# Altium schematic symbol library kmilo17pet-TI_MSP430.SchLib: 1463 symbols (part 27 of 130)
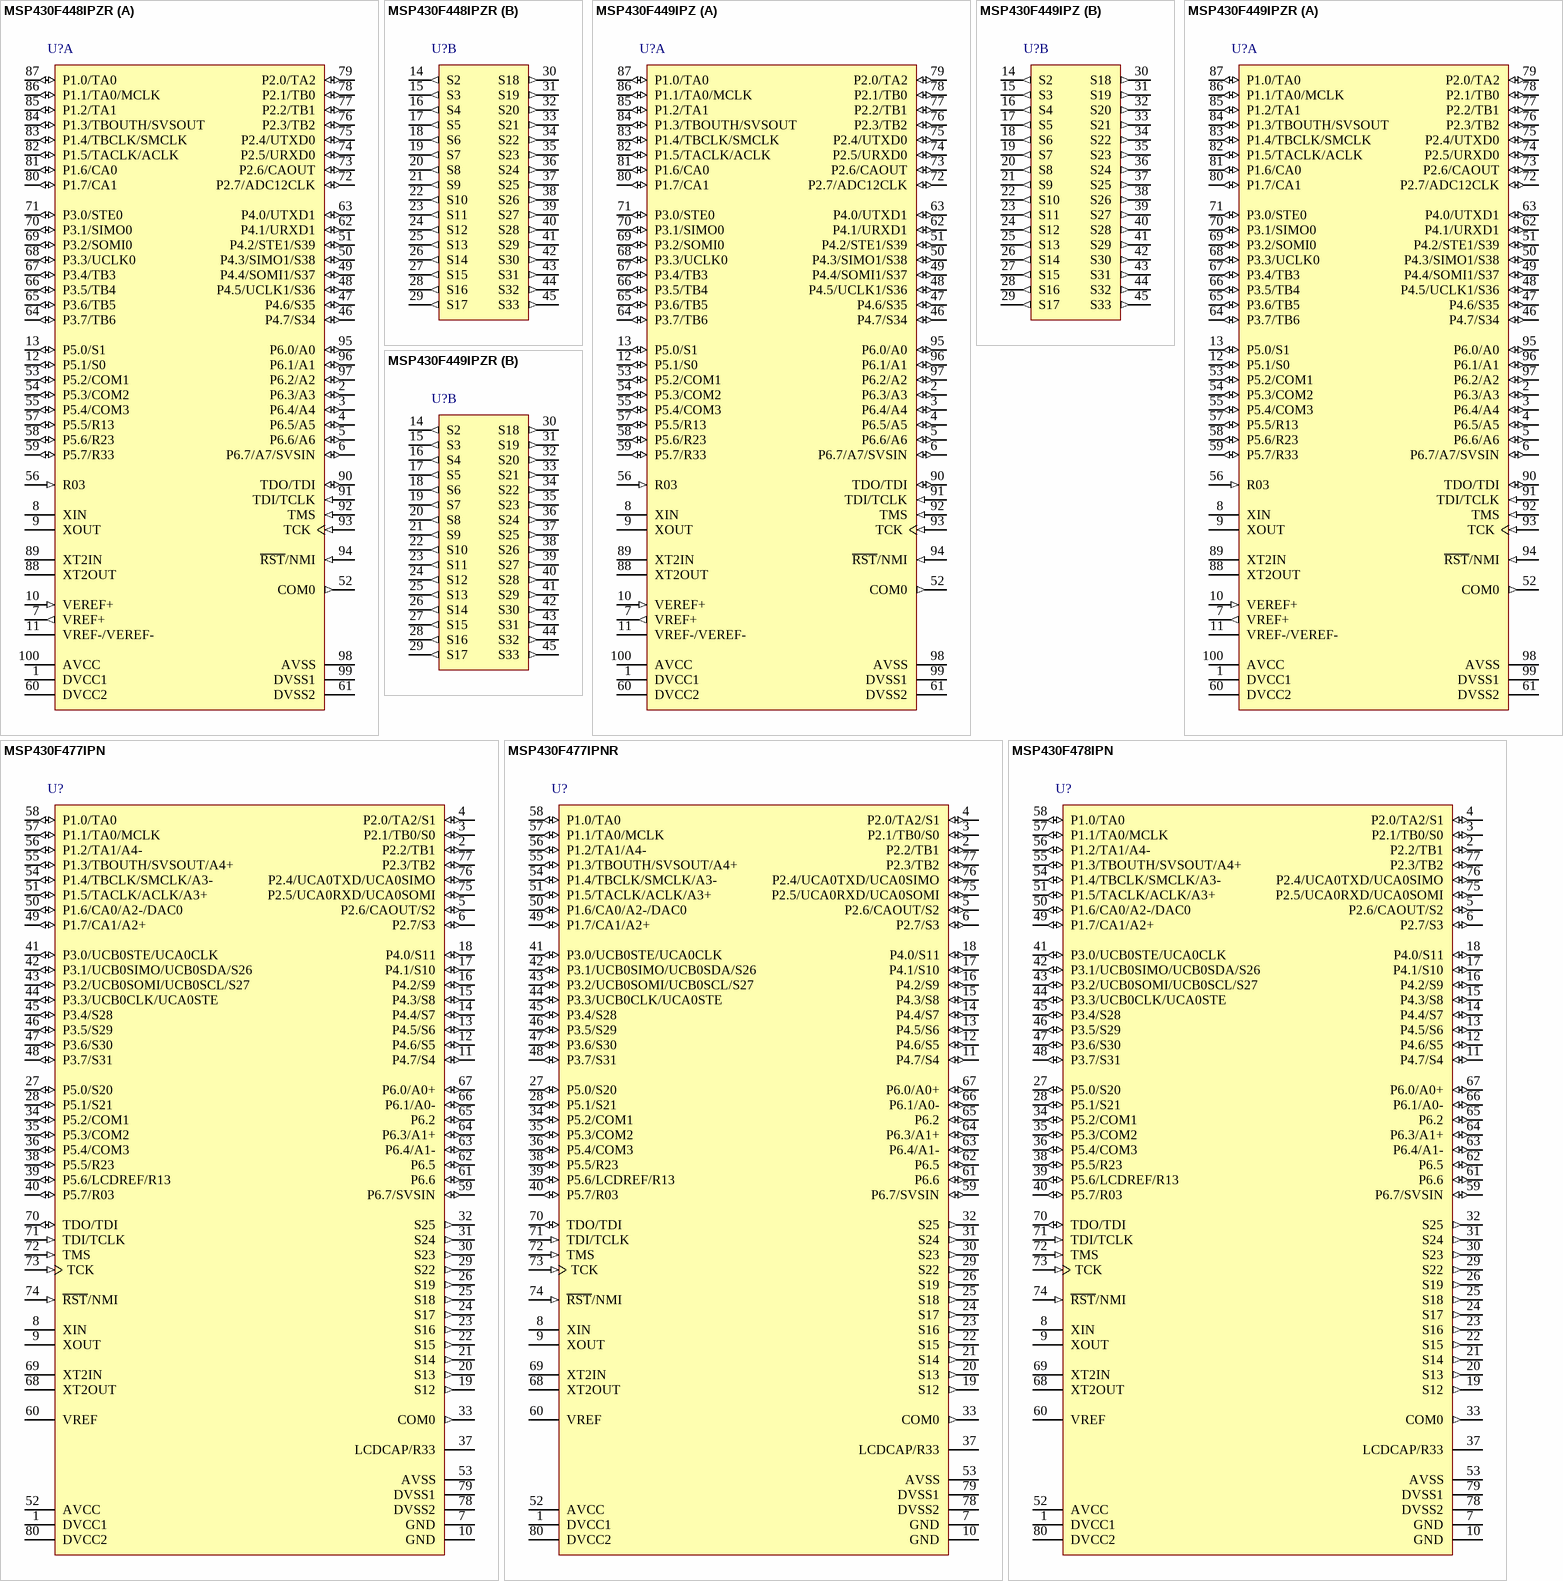
[diagram p250: symbols MSP430F448IPZR to MSP430F478IPN]

## MSP430F449IPZR
designator U?
8 MHz Mixed Signal Microcontroller with 60 KB Flash, 2048 B SRAM and 48 GPIOs, -40 to 85 degC, 100-pin QFP (PZ), Green (RoHS & no Sb/Br); Manufacturer: Texas Instruments; PartNumber: MSP430F449IPZR; ADC: 12-bit SAR; Brown Out Reset: Yes; Flash(KB): 60; Frequency(MHz): 8; GPIO: 48; LCD Segments: 160; Multiplier: 16x16; SRAM(B): 2048; SubFamily: 4 Series with LCD; USART: 2; DatasheetVersion: SLAS344G; PackageVersion: 4040149/B; PackageReference: PZ100; PackageDescription: 100-Pin Plastic Flat Pack, Body 14 x 14 mm, Pitch 0.5 mm; Supplier 1: Digi-Key; Supplier Part Number 1: 296-12640-ND; Supplier 2: Farnell; Supplier Part Number 2: 1103049; Supplier 3: Newark; Supplier Part Number 3: 34K8192; Supplier 4: Mouser; Supplier Part Number 4: 595-430F449IPZ; Comparators: Yes; Eco-Plan: Green (RoHS & no Sb/Br); SVS: Yes; Temp Sensor: Yes; Watchdog: Yes; Mounting Technology: Surface Mount; Code_JEDEC: MS-026; ComponentLink1Description: Manufacturer URL; ComponentLink1URL: http://www.ti.com/; ComponentLink2Description: Datasheet; ComponentLink2URL: http://www.ti.com/general/docs/lit/getliterature.tsp?genericPartNumber=MSP430F449&fileType=pdf; ComponentLink3Description: Package Specification; ComponentLink3URL: http://www.ti.com/lit/ml/mtqf013a/mtqf013a.pdf
footprint TI-PZ100_N (QFP, 100-Leads, Body 14x14mm, Pitch 0.5mm, IPC Medium Density)
part A pins: 1 DVCC1 (power) "Digital supply voltage, positive terminal.", 2 P6.3/A3 (io), 3 P6.4/A4 (io), 4 P6.5/A5 (io), 5 P6.6/A6 (io), 6 P6.7/A7/SVSIN (io), 7 VREF+ (out) "Output of positive terminal of the reference voltage in the ADC", 8 XIN "Input port for crystal oscillator XT1. Standard or watch crystals can be connected.", 9 XOUT "Output terminal of crystal oscillator XT1", 10 VEREF+ (in) "Input for an external reference voltage to the ADC", 11 VREF-/VEREF-, 12 P5.1/S0 (io), 13 P5.0/S1 (io), 46 P4.7/S34 (io), 47 P4.6/S35 (io), 48 P4.5/UCLK1/S36 (io), 49 P4.4/SOMI1/S37 (io), 50 P4.3/SIMO1/S38 (io), 51 P4.2/STE1/S39 (io), 52 COM0 (out) "COM0-3 are used for LCD backplanes.", 53 P5.2/COM1 (io), 54 P5.3/COM2 (io), 55 P5.4/COM3 (io), 56 R03 (in) "Input port of fourth positive (lowest) analog LCD level (V5)", 57 P5.5/R13 (io), 58 P5.6/R23 (io), 59 P5.7/R33 (io), 60 DVCC2 (power) "Digital supply voltage, positive terminal.", 61 DVSS2 (power) "Digital supply voltage, negative terminal.", 62 P4.1/URXD1 (io), 63 P4.0/UTXD1 (io), 64 P3.7/TB6 (io), 65 P3.6/TB5 (io), 66 P3.5/TB4 (io), 67 P3.4/TB3 (io), 68 P3.3/UCLK0 (io), 69 P3.2/SOMI0 (io), 70 P3.1/SIMO0 (io), 71 P3.0/STE0 (io), 72 P2.7/ADC12CLK (io), 73 P2.6/CAOUT (io), 74 P2.5/URXD0 (io), 75 P2.4/UTXD0 (io), 76 P2.3/TB2 (io), 77 P2.2/TB1 (io), 78 P2.1/TB0 (io), 79 P2.0/TA2 (io), 80 P1.7/CA1 (io), 81 P1.6/CA0 (io), 82 P1.5/TACLK/ACLK (io), 83 P1.4/TBCLK/SMCLK (io), 84 P1.3/TBOUTH/SVSOUT (io), 85 P1.2/TA1 (io), 86 P1.1/TA0/MCLK (io), 87 P1.0/TA0 (io), 88 XT2OUT "Output terminal of crystal oscillator XT2", 89 XT2IN "Input port for crystal oscillator XT2. Only standard crystals can be connected.", 90 TDO/TDI (io), 91 TDI/TCLK (in), 92 TMS (in) "Test mode select. TMS is used as an input port for device programming and test.", 93 TCK (in) "Test clock. TCK is the clock input port for device programming and test.", 94 ~{RST}/NMI (in), 95 P6.0/A0 (io), 96 P6.1/A1 (io), 97 P6.2/A2 (io), 98 AVSS (power) "Analog supply voltage, negative terminal. Supplies SVS, brownout, oscillator, comparator_A, ADC12, port 1, and LCD resistive divider circuitry.", 99 DVSS1 (power) "Digital supply voltage, negative terminal.", 100 AVCC (power) "Analog supply voltage, positive terminal. Supplies SVS, brownout, oscillator, comparator_A, ADC12, port 1, and LCD resistive divider circuitry; must not power up prior to DVCC1/DVCC2."
part B pins: 14 S2 (out) "LCD segment output 2", 15 S3 (out) "LCD segment output 3", 16 S4 (out) "LCD segment output 4", 17 S5 (out) "LCD segment output 5", 18 S6 (out) "LCD segment output 6", 19 S7 (out) "LCD segment output 7", 20 S8 (out) "LCD segment output 8", 21 S9 (out) "LCD segment output 9", 22 S10 (out) "LCD segment output 10", 23 S11 (out) "LCD segment output 11", 24 S12 (out) "LCD segment output 12", 25 S13 (out) "LCD segment output 13", 26 S14 (out) "LCD segment output 14", 27 S15 (out) "LCD segment output 15", 28 S16 (out) "LCD segment output 16", 29 S17 (out) "LCD segment output 17", 30 S18 (out) "LCD segment output 18", 31 S19 (out) "LCD segment output 19", 32 S20 (out) "LCD segment output 20", 33 S21 (out) "LCD segment output 21", 34 S22 (out) "LCD segment output 22", 35 S23 (out) "LCD segment output 23", 36 S24 (out) "LCD segment output 24", 37 S25 (out) "LCD segment output 25", 38 S26 (out) "LCD segment output 26", 39 S27 (out) "LCD segment output 27", 40 S28 (out) "LCD segment output 28", 41 S29 (out) "LCD segment output 29", 42 S30 (out) "LCD segment output 30", 43 S31 (out) "LCD segment output 31", 44 S32 (out) "LCD segment output 32", 45 S33 (out) "LCD segment output 33"

## MSP430F477IPN
designator U?
8 MHz Mixed Signal Microcontroller with 32 KB Flash, 2048 B SRAM and 48 GPIOs, -40 to 85 degC, 80-pin QFP (PN), Green (RoHS & no Sb/Br); Manufacturer: Texas Instruments; PartNumber: MSP430F477IPN; ADC: 16-bit Sigma Delta; Brown Out Reset: Yes; DAC: 1; Flash(KB): 32; Frequency(MHz): 8; GPIO: 48; LCD Segments: 128; SRAM(B): 2048; SubFamily: 4 Series with LCD; DatasheetVersion: SLAS629A; PackageReference: PN80; PackageDescription: 80-Pin Plastic Quad Flat Pack, Body 12 x 12 mm, Pitch 0.5 mm; Supplier 1: Digi-Key; Supplier Part Number 1: 296-24645-2-ND; Supplier 2: Digi-Key; Supplier Part Number 2: 296-24645-1-ND; Supplier 3: Digi-Key; Supplier Part Number 3: 296-24645-6-ND; Supplier 4: Newark; Supplier Part Number 4: 24R9856; Supplier 5: Mouser; Supplier Part Number 5: 595-MSP430F47197IPZR; Comparators: Yes; Eco-Plan: Green (RoHS & no Sb/Br); Real-Time Clock: Yes; SVS: Yes; Temp Sensor: Yes; USCI_A (UART/LIN/IrDA/SPI): 1; USCI_B (I2C & SPI): 1; Watchdog: Yes; Mounting Technology: Surface Mount; Code_JEDEC: MS-018; ComponentLink1Description: Manufacturer URL; ComponentLink1URL: http://www.ti.com/; ComponentLink2Description: Datasheet; ComponentLink2URL: http://www.ti.com/general/docs/lit/getliterature.tsp?genericPartNumber=MSP430F477&fileType=pdf; ComponentLink3Description: Package Specification; ComponentLink3URL: http://www.ti.com/lit/ml/mtqf010a/mtqf010a.pdf
footprint TI-PN80_N (QFP, 80-Leads, Body 12x12mm, Pitch 0.5mm, IPC Medium Density)
pins: 1 DVCC1 (power) "Digital supply voltage, positive terminal. Supplies all digital parts.", 2 P2.2/TB1 (io), 3 P2.1/TB0/S0 (io), 4 P2.0/TA2/S1 (io), 5 P2.6/CAOUT/S2 (io), 6 P2.7/S3 (io), 7 GND (power) "Ground. It is used to shield the oscillator. See Note 1.", 8 XIN "Input port for crystal oscillator XT1. Standard or watch crystals can be connected.", 9 XOUT "Output port for crystal oscillator XT1. Standard or watch crystals can be connected.", 10 GND (power) "Ground. It is used to shield the oscillator. See Note 1.", 11 P4.7/S4 (io), 12 P4.6/S5 (io), 13 P4.5/S6 (io), 14 P4.4/S7 (io), 15 P4.3/S8 (io), 16 P4.2/S9 (io), 17 P4.1/S10 (io), 18 P4.0/S11 (io), 19 S12 (out) "LCD segment output 12", 20 S13 (out) "LCD segment output 13", 21 S14 (out) "LCD segment output 14", 22 S15 (out) "LCD segment output 15", 23 S16 (out) "LCD segment output 16", 24 S17 (out) "LCD segment output 17", 25 S18 (out) "LCD segment output 18", 26 S19 (out) "LCD segment output 19", 27 P5.0/S20 (io), 28 P5.1/S21 (io), 29 S22 (out) "LCD segment output 22", 30 S23 (out) "LCD segment output 23", 31 S24 (out) "LCD segment output 24", 32 S25 (out) "LCD segment output 25", 33 COM0 (out) "Common output, COM0--3 are used for LCD backplanes", 34 P5.2/COM1 (io), 35 P5.3/COM2 (io), 36 P5.4/COM3 (io), 37 LCDCAP/R33, 38 P5.5/R23 (io), 39 P5.6/LCDREF/R13 (io), 40 P5.7/R03 (io), 41 P3.0/UCB0STE/UCA0CLK (io), 42 P3.1/UCB0SIMO/UCB0SDA/S26 (io), 43 P3.2/UCB0SOMI/UCB0SCL/S27 (io), 44 P3.3/UCB0CLK/UCA0STE (io), 45 P3.4/S28 (io), 46 P3.5/S29 (io), 47 P3.6/S30 (io), 48 P3.7/S31 (io), 49 P1.7/CA1/A2+ (io), 50 P1.6/CA0/A2-/DAC0 (io), 51 P1.5/TACLK/ACLK/A3+ (io), 52 AVCC (power) "Analog supply voltage, positive terminal", 53 AVSS (power) "Analog supply voltage, negative terminal", 54 P1.4/TBCLK/SMCLK/A3- (io), 55 P1.3/TBOUTH/SVSOUT/A4+ (io), 56 P1.2/TA1/A4- (io), 57 P1.1/TA0/MCLK (io), 58 P1.0/TA0 (io), 59 P6.7/SVSIN (io), 60 VREF "Input for an external reference voltage/internal reference voltage output", 61 P6.6 (io) "General-purpose digital I/O pin", 62 P6.5 (io) "General-purpose digital I/O pin", 63 P6.4/A1- (io), 64 P6.3/A1+ (io), 65 P6.2 (io) "General-purpose digital I/O pin", 66 P6.1/A0- (io), 67 P6.0/A0+ (io), 68 XT2OUT "Output terminal of crystal oscillator XT2", 69 XT2IN "Input port for crystal oscillator XT2", 70 TDO/TDI (io), 71 TDI/TCLK (in), 72 TMS (in) "Test mode select. TMS is used as an input port for device programming and test.", 73 TCK (in) "Test clock (JTAG). TCK is the clock input port for device programming test and bootstrap loader start.", 74 ~{RST}/NMI (in), 75 P2.5/UCA0RXD/UCA0SOMI (io), 76 P2.4/UCA0TXD/UCA0SIMO (io), 77 P2.3/TB2 (io), 78 DVSS2 (power) "Digital supply voltage, negative terminal. Supplies all digital parts.", 79 DVSS1 (power) "Digital supply voltage, negative terminal. Supplies all digital parts.", 80 DVCC2 (power) "Digital supply voltage, positive terminal. Supplies all digital parts."

## MSP430F477IPNR
designator U?
8 MHz Mixed Signal Microcontroller with 32 KB Flash, 2048 B SRAM and 48 GPIOs, -40 to 85 degC, 80-pin QFP (PN), Green (RoHS & no Sb/Br); Manufacturer: Texas Instruments; PartNumber: MSP430F477IPNR; ADC: 16-bit Sigma Delta; Brown Out Reset: Yes; DAC: 1; Flash(KB): 32; Frequency(MHz): 8; GPIO: 48; LCD Segments: 128; SRAM(B): 2048; SubFamily: 4 Series with LCD; DatasheetVersion: SLAS629A; PackageReference: PN80; PackageDescription: 80-Pin Plastic Quad Flat Pack, Body 12 x 12 mm, Pitch 0.5 mm; Supplier 1: Digi-Key; Supplier Part Number 1: MSP430F477IPN-ND; Supplier 2: Newark; Supplier Part Number 2: 24R9857; Supplier 3: Mouser; Supplier Part Number 3: 595-MSP430F477IPN; Comparators: Yes; Eco-Plan: Green (RoHS & no Sb/Br); Real-Time Clock: Yes; SVS: Yes; Temp Sensor: Yes; USCI_A (UART/LIN/IrDA/SPI): 1; USCI_B (I2C & SPI): 1; Watchdog: Yes; Mounting Technology: Surface Mount; Code_JEDEC: MS-018; ComponentLink1Description: Manufacturer URL; ComponentLink1URL: http://www.ti.com/; ComponentLink2Description: Datasheet; ComponentLink2URL: http://www.ti.com/general/docs/lit/getliterature.tsp?genericPartNumber=MSP430F477&fileType=pdf; ComponentLink3Description: Package Specification; ComponentLink3URL: http://www.ti.com/lit/ml/mtqf010a/mtqf010a.pdf
footprint TI-PN80_N (QFP, 80-Leads, Body 12x12mm, Pitch 0.5mm, IPC Medium Density)
pins: 1 DVCC1 (power) "Digital supply voltage, positive terminal. Supplies all digital parts.", 2 P2.2/TB1 (io), 3 P2.1/TB0/S0 (io), 4 P2.0/TA2/S1 (io), 5 P2.6/CAOUT/S2 (io), 6 P2.7/S3 (io), 7 GND (power) "Ground. It is used to shield the oscillator. See Note 1.", 8 XIN "Input port for crystal oscillator XT1. Standard or watch crystals can be connected.", 9 XOUT "Output port for crystal oscillator XT1. Standard or watch crystals can be connected.", 10 GND (power) "Ground. It is used to shield the oscillator. See Note 1.", 11 P4.7/S4 (io), 12 P4.6/S5 (io), 13 P4.5/S6 (io), 14 P4.4/S7 (io), 15 P4.3/S8 (io), 16 P4.2/S9 (io), 17 P4.1/S10 (io), 18 P4.0/S11 (io), 19 S12 (out) "LCD segment output 12", 20 S13 (out) "LCD segment output 13", 21 S14 (out) "LCD segment output 14", 22 S15 (out) "LCD segment output 15", 23 S16 (out) "LCD segment output 16", 24 S17 (out) "LCD segment output 17", 25 S18 (out) "LCD segment output 18", 26 S19 (out) "LCD segment output 19", 27 P5.0/S20 (io), 28 P5.1/S21 (io), 29 S22 (out) "LCD segment output 22", 30 S23 (out) "LCD segment output 23", 31 S24 (out) "LCD segment output 24", 32 S25 (out) "LCD segment output 25", 33 COM0 (out) "Common output, COM0--3 are used for LCD backplanes", 34 P5.2/COM1 (io), 35 P5.3/COM2 (io), 36 P5.4/COM3 (io), 37 LCDCAP/R33, 38 P5.5/R23 (io), 39 P5.6/LCDREF/R13 (io), 40 P5.7/R03 (io), 41 P3.0/UCB0STE/UCA0CLK (io), 42 P3.1/UCB0SIMO/UCB0SDA/S26 (io), 43 P3.2/UCB0SOMI/UCB0SCL/S27 (io), 44 P3.3/UCB0CLK/UCA0STE (io), 45 P3.4/S28 (io), 46 P3.5/S29 (io), 47 P3.6/S30 (io), 48 P3.7/S31 (io), 49 P1.7/CA1/A2+ (io), 50 P1.6/CA0/A2-/DAC0 (io), 51 P1.5/TACLK/ACLK/A3+ (io), 52 AVCC (power) "Analog supply voltage, positive terminal", 53 AVSS (power) "Analog supply voltage, negative terminal", 54 P1.4/TBCLK/SMCLK/A3- (io), 55 P1.3/TBOUTH/SVSOUT/A4+ (io), 56 P1.2/TA1/A4- (io), 57 P1.1/TA0/MCLK (io), 58 P1.0/TA0 (io), 59 P6.7/SVSIN (io), 60 VREF "Input for an external reference voltage/internal reference voltage output", 61 P6.6 (io) "General-purpose digital I/O pin", 62 P6.5 (io) "General-purpose digital I/O pin", 63 P6.4/A1- (io), 64 P6.3/A1+ (io), 65 P6.2 (io) "General-purpose digital I/O pin", 66 P6.1/A0- (io), 67 P6.0/A0+ (io), 68 XT2OUT "Output terminal of crystal oscillator XT2", 69 XT2IN "Input port for crystal oscillator XT2", 70 TDO/TDI (io), 71 TDI/TCLK (in), 72 TMS (in) "Test mode select. TMS is used as an input port for device programming and test.", 73 TCK (in) "Test clock (JTAG). TCK is the clock input port for device programming test and bootstrap loader start.", 74 ~{RST}/NMI (in), 75 P2.5/UCA0RXD/UCA0SOMI (io), 76 P2.4/UCA0TXD/UCA0SIMO (io), 77 P2.3/TB2 (io), 78 DVSS2 (power) "Digital supply voltage, negative terminal. Supplies all digital parts.", 79 DVSS1 (power) "Digital supply voltage, negative terminal. Supplies all digital parts.", 80 DVCC2 (power) "Digital supply voltage, positive terminal. Supplies all digital parts."

## MSP430F478IPN
designator U?
8 MHz Mixed Signal Microcontroller with 48 KB Flash, 2048 B SRAM and 48 GPIOs, -40 to 85 degC, 80-pin QFP (PN), Green (RoHS & no Sb/Br); Manufacturer: Texas Instruments; PartNumber: MSP430F478IPN; ADC: 16-bit Sigma Delta; Brown Out Reset: Yes; DAC: 1; Flash(KB): 48; Frequency(MHz): 8; LCD Segments: 128; SRAM(B): 2048; SubFamily: 4 Series with LCD; Timers - 16-bit: 2; DatasheetVersion: SLAS629A; PackageReference: PN80; PackageDescription: 80-Pin Plastic Quad Flat Pack, Body 12 x 12 mm, Pitch 0.5 mm; Supplier 1: Digi-Key; Supplier Part Number 1: 296-24720-2-ND; Supplier 2: Digi-Key; Supplier Part Number 2: 296-24720-1-ND; Supplier 3: Digi-Key; Supplier Part Number 3: 296-24720-6-ND; Supplier 4: Newark; Supplier Part Number 4: 73M3252; Supplier 5: Mouser; Supplier Part Number 5: 595-MSP430F4784IPZR; Comparators: Yes; Eco-Plan: Green (RoHS & no Sb/Br); GPIO: 48; Real-Time Clock: Yes; SVS: Yes; Temp Sensor: Yes; USCI_A (UART/LIN/IrDA/SPI): 1; USCI_B (I2C & SPI): 1; Watchdog: Yes; Mounting Technology: Surface Mount; Code_JEDEC: MS-018; ComponentLink1Description: Manufacturer URL; ComponentLink1URL: http://www.ti.com/; ComponentLink2Description: Datasheet; ComponentLink2URL: http://www.ti.com/general/docs/lit/getliterature.tsp?genericPartNumber=MSP430F478&fileType=pdf; ComponentLink3Description: Package Specification; ComponentLink3URL: http://www.ti.com/lit/ml/mtqf010a/mtqf010a.pdf
footprint TI-PN80_N (QFP, 80-Leads, Body 12x12mm, Pitch 0.5mm, IPC Medium Density)
pins: 1 DVCC1 (power) "Digital supply voltage, positive terminal. Supplies all digital parts.", 2 P2.2/TB1 (io), 3 P2.1/TB0/S0 (io), 4 P2.0/TA2/S1 (io), 5 P2.6/CAOUT/S2 (io), 6 P2.7/S3 (io), 7 GND (power) "Ground. It is used to shield the oscillator. See Note 1.", 8 XIN "Input port for crystal oscillator XT1. Standard or watch crystals can be connected.", 9 XOUT "Output port for crystal oscillator XT1. Standard or watch crystals can be connected.", 10 GND (power) "Ground. It is used to shield the oscillator. See Note 1.", 11 P4.7/S4 (io), 12 P4.6/S5 (io), 13 P4.5/S6 (io), 14 P4.4/S7 (io), 15 P4.3/S8 (io), 16 P4.2/S9 (io), 17 P4.1/S10 (io), 18 P4.0/S11 (io), 19 S12 (out) "LCD segment output 12", 20 S13 (out) "LCD segment output 13", 21 S14 (out) "LCD segment output 14", 22 S15 (out) "LCD segment output 15", 23 S16 (out) "LCD segment output 16", 24 S17 (out) "LCD segment output 17", 25 S18 (out) "LCD segment output 18", 26 S19 (out) "LCD segment output 19", 27 P5.0/S20 (io), 28 P5.1/S21 (io), 29 S22 (out) "LCD segment output 22", 30 S23 (out) "LCD segment output 23", 31 S24 (out) "LCD segment output 24", 32 S25 (out) "LCD segment output 25", 33 COM0 (out) "Common output, COM0--3 are used for LCD backplanes", 34 P5.2/COM1 (io), 35 P5.3/COM2 (io), 36 P5.4/COM3 (io), 37 LCDCAP/R33, 38 P5.5/R23 (io), 39 P5.6/LCDREF/R13 (io), 40 P5.7/R03 (io), 41 P3.0/UCB0STE/UCA0CLK (io), 42 P3.1/UCB0SIMO/UCB0SDA/S26 (io), 43 P3.2/UCB0SOMI/UCB0SCL/S27 (io), 44 P3.3/UCB0CLK/UCA0STE (io), 45 P3.4/S28 (io), 46 P3.5/S29 (io), 47 P3.6/S30 (io), 48 P3.7/S31 (io), 49 P1.7/CA1/A2+ (io), 50 P1.6/CA0/A2-/DAC0 (io), 51 P1.5/TACLK/ACLK/A3+ (io), 52 AVCC (power) "Analog supply voltage, positive terminal", 53 AVSS (power) "Analog supply voltage, negative terminal", 54 P1.4/TBCLK/SMCLK/A3- (io), 55 P1.3/TBOUTH/SVSOUT/A4+ (io), 56 P1.2/TA1/A4- (io), 57 P1.1/TA0/MCLK (io), 58 P1.0/TA0 (io), 59 P6.7/SVSIN (io), 60 VREF "Input for an external reference voltage/internal reference voltage output", 61 P6.6 (io) "General-purpose digital I/O pin", 62 P6.5 (io) "General-purpose digital I/O pin", 63 P6.4/A1- (io), 64 P6.3/A1+ (io), 65 P6.2 (io) "General-purpose digital I/O pin", 66 P6.1/A0- (io), 67 P6.0/A0+ (io), 68 XT2OUT "Output terminal of crystal oscillator XT2", 69 XT2IN "Input port for crystal oscillator XT2", 70 TDO/TDI (io), 71 TDI/TCLK (in), 72 TMS (in) "Test mode select. TMS is used as an input port for device programming and test.", 73 TCK (in) "Test clock (JTAG). TCK is the clock input port for device programming test and bootstrap loader start.", 74 ~{RST}/NMI (in), 75 P2.5/UCA0RXD/UCA0SOMI (io), 76 P2.4/UCA0TXD/UCA0SIMO (io), 77 P2.3/TB2 (io), 78 DVSS2 (power) "Digital supply voltage, negative terminal. Supplies all digital parts.", 79 DVSS1 (power) "Digital supply voltage, negative terminal. Supplies all digital parts.", 80 DVCC2 (power) "Digital supply voltage, positive terminal. Supplies all digital parts."

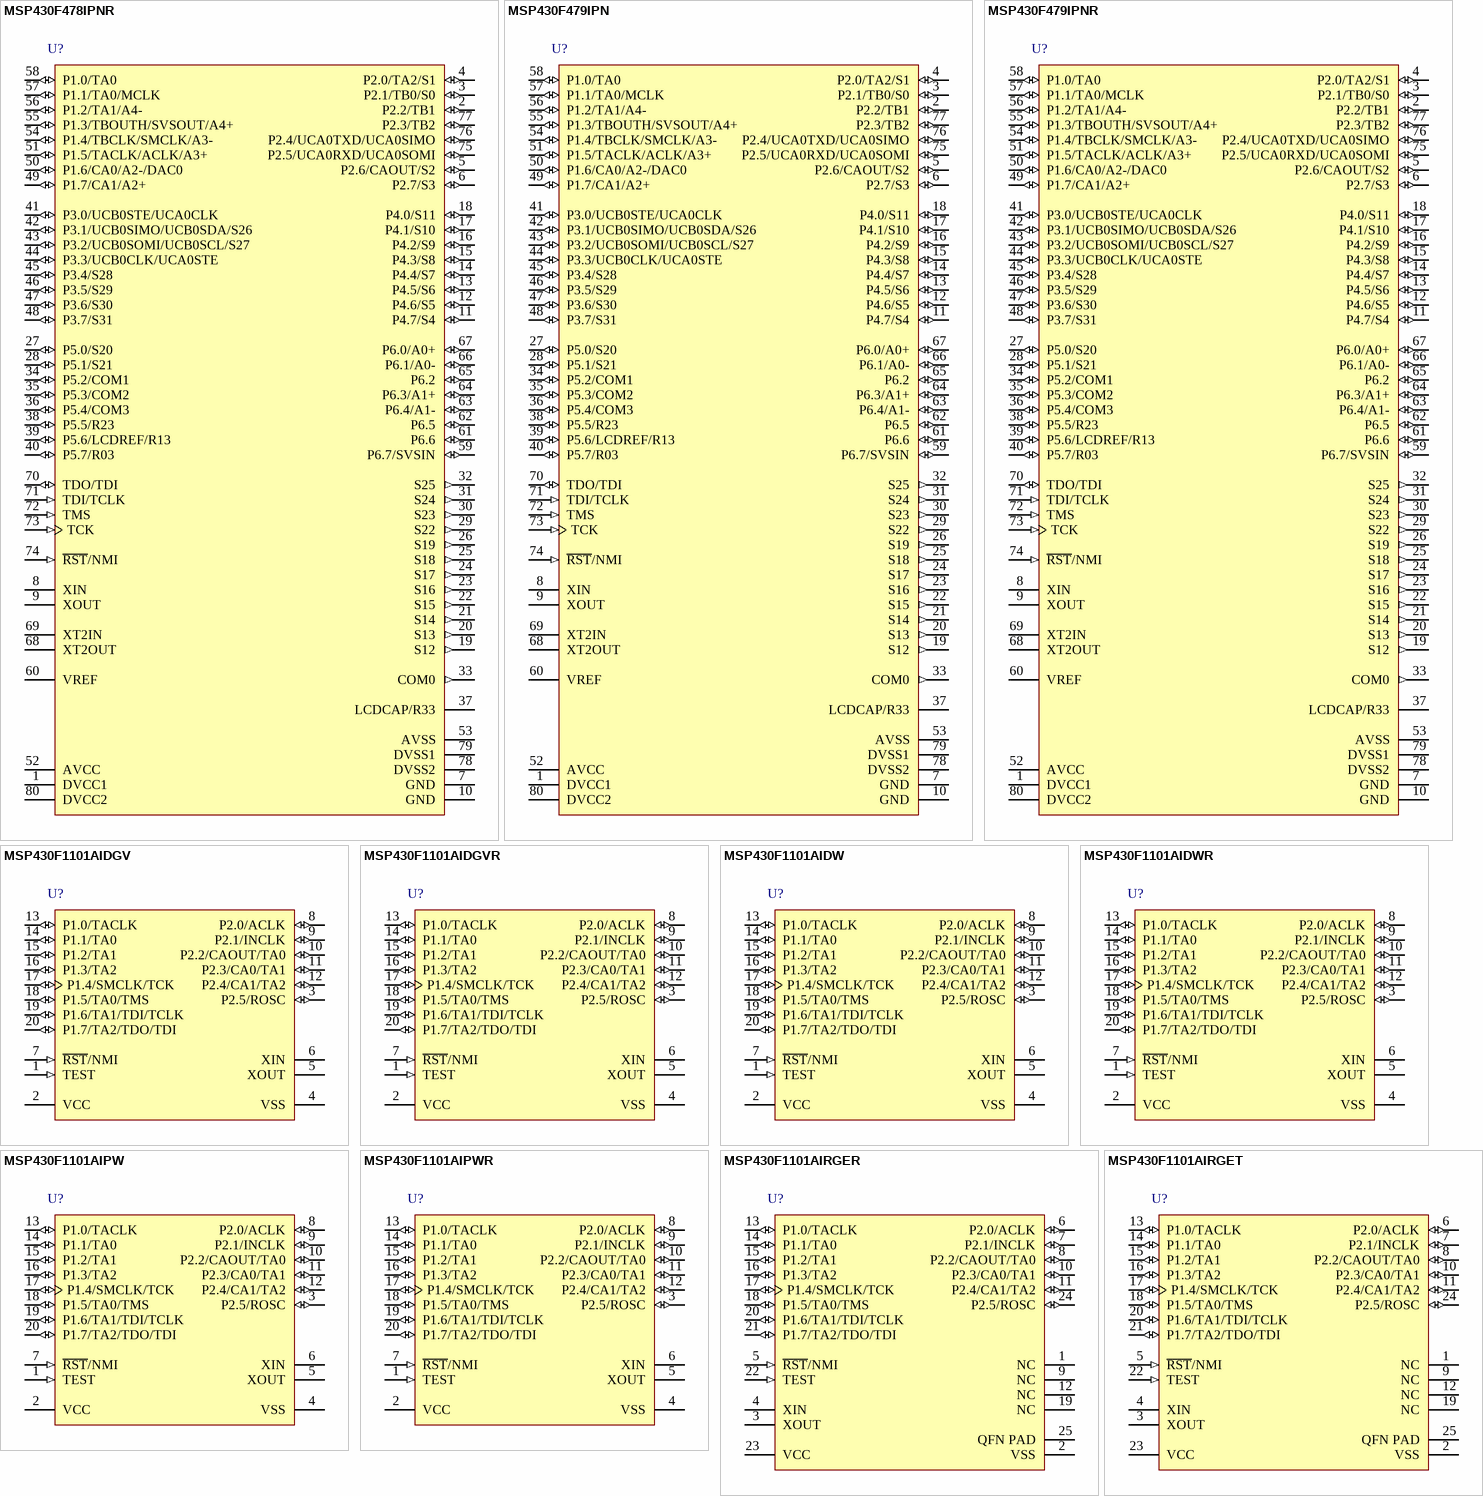
[diagram p39: symbols MSP430F478IPNR to MSP430F1101AIRGET]

## MSP430F478IPNR
designator U?
8 MHz Mixed Signal Microcontroller with 48 KB Flash, 2048 B SRAM and 48 GPIOs, -40 to 85 degC, 80-pin QFP (PN), Green (RoHS & no Sb/Br); Manufacturer: Texas Instruments; PartNumber: MSP430F478IPNR; ADC: 16-bit Sigma Delta; Brown Out Reset: Yes; DAC: 1; Flash(KB): 48; Frequency(MHz): 8; LCD Segments: 128; SRAM(B): 2048; SubFamily: 4 Series with LCD; Timers - 16-bit: 2; DatasheetVersion: SLAS629A; PackageReference: PN80; PackageDescription: 80-Pin Plastic Quad Flat Pack, Body 12 x 12 mm, Pitch 0.5 mm; Supplier 1: Digi-Key; Supplier Part Number 1: MSP430F478IPN-ND; Supplier 2: Newark; Supplier Part Number 2: 24R9861; Supplier 3: Mouser; Supplier Part Number 3: 595-MSP430F478IPN; Comparators: Yes; Eco-Plan: Green (RoHS & no Sb/Br); GPIO: 48; Real-Time Clock: Yes; SVS: Yes; Temp Sensor: Yes; USCI_A (UART/LIN/IrDA/SPI): 1; USCI_B (I2C & SPI): 1; Watchdog: Yes; Mounting Technology: Surface Mount; Code_JEDEC: MS-018; ComponentLink1Description: Manufacturer URL; ComponentLink1URL: http://www.ti.com/; ComponentLink2Description: Datasheet; ComponentLink2URL: http://www.ti.com/general/docs/lit/getliterature.tsp?genericPartNumber=MSP430F478&fileType=pdf; ComponentLink3Description: Package Specification; ComponentLink3URL: http://www.ti.com/lit/ml/mtqf010a/mtqf010a.pdf
footprint TI-PN80_N (QFP, 80-Leads, Body 12x12mm, Pitch 0.5mm, IPC Medium Density)
pins: 1 DVCC1 (power) "Digital supply voltage, positive terminal. Supplies all digital parts.", 2 P2.2/TB1 (io), 3 P2.1/TB0/S0 (io), 4 P2.0/TA2/S1 (io), 5 P2.6/CAOUT/S2 (io), 6 P2.7/S3 (io), 7 GND (power) "Ground. It is used to shield the oscillator. See Note 1.", 8 XIN "Input port for crystal oscillator XT1. Standard or watch crystals can be connected.", 9 XOUT "Output port for crystal oscillator XT1. Standard or watch crystals can be connected.", 10 GND (power) "Ground. It is used to shield the oscillator. See Note 1.", 11 P4.7/S4 (io), 12 P4.6/S5 (io), 13 P4.5/S6 (io), 14 P4.4/S7 (io), 15 P4.3/S8 (io), 16 P4.2/S9 (io), 17 P4.1/S10 (io), 18 P4.0/S11 (io), 19 S12 (out) "LCD segment output 12", 20 S13 (out) "LCD segment output 13", 21 S14 (out) "LCD segment output 14", 22 S15 (out) "LCD segment output 15", 23 S16 (out) "LCD segment output 16", 24 S17 (out) "LCD segment output 17", 25 S18 (out) "LCD segment output 18", 26 S19 (out) "LCD segment output 19", 27 P5.0/S20 (io), 28 P5.1/S21 (io), 29 S22 (out) "LCD segment output 22", 30 S23 (out) "LCD segment output 23", 31 S24 (out) "LCD segment output 24", 32 S25 (out) "LCD segment output 25", 33 COM0 (out) "Common output, COM0--3 are used for LCD backplanes", 34 P5.2/COM1 (io), 35 P5.3/COM2 (io), 36 P5.4/COM3 (io), 37 LCDCAP/R33, 38 P5.5/R23 (io), 39 P5.6/LCDREF/R13 (io), 40 P5.7/R03 (io), 41 P3.0/UCB0STE/UCA0CLK (io), 42 P3.1/UCB0SIMO/UCB0SDA/S26 (io), 43 P3.2/UCB0SOMI/UCB0SCL/S27 (io), 44 P3.3/UCB0CLK/UCA0STE (io), 45 P3.4/S28 (io), 46 P3.5/S29 (io), 47 P3.6/S30 (io), 48 P3.7/S31 (io), 49 P1.7/CA1/A2+ (io), 50 P1.6/CA0/A2-/DAC0 (io), 51 P1.5/TACLK/ACLK/A3+ (io), 52 AVCC (power) "Analog supply voltage, positive terminal", 53 AVSS (power) "Analog supply voltage, negative terminal", 54 P1.4/TBCLK/SMCLK/A3- (io), 55 P1.3/TBOUTH/SVSOUT/A4+ (io), 56 P1.2/TA1/A4- (io), 57 P1.1/TA0/MCLK (io), 58 P1.0/TA0 (io), 59 P6.7/SVSIN (io), 60 VREF "Input for an external reference voltage/internal reference voltage output", 61 P6.6 (io) "General-purpose digital I/O pin", 62 P6.5 (io) "General-purpose digital I/O pin", 63 P6.4/A1- (io), 64 P6.3/A1+ (io), 65 P6.2 (io) "General-purpose digital I/O pin", 66 P6.1/A0- (io), 67 P6.0/A0+ (io), 68 XT2OUT "Output terminal of crystal oscillator XT2", 69 XT2IN "Input port for crystal oscillator XT2", 70 TDO/TDI (io), 71 TDI/TCLK (in), 72 TMS (in) "Test mode select. TMS is used as an input port for device programming and test.", 73 TCK (in) "Test clock (JTAG). TCK is the clock input port for device programming test and bootstrap loader start.", 74 ~{RST}/NMI (in), 75 P2.5/UCA0RXD/UCA0SOMI (io), 76 P2.4/UCA0TXD/UCA0SIMO (io), 77 P2.3/TB2 (io), 78 DVSS2 (power) "Digital supply voltage, negative terminal. Supplies all digital parts.", 79 DVSS1 (power) "Digital supply voltage, negative terminal. Supplies all digital parts.", 80 DVCC2 (power) "Digital supply voltage, positive terminal. Supplies all digital parts."

## MSP430F479IPN
designator U?
8 MHz Mixed Signal Microcontroller with 60 KB Flash, 2048 B SRAM and 48 GPIOs, -40 to 85 degC, 80-pin QFP (PN), Green (RoHS & no Sb/Br); Manufacturer: Texas Instruments; PartNumber: MSP430F479IPN; ADC: 16-bit Sigma Delta; Brown Out Reset: Yes; Flash(KB): 60; Frequency(MHz): 8; GPIO: 48; LCD Segments: 128; SRAM(B): 2048; SubFamily: 4 Series with LCD; Timers - 16-bit: 2; USCI_A (UART/LIN/IrDA/SPI): 1; DatasheetVersion: SLAS629A; PackageReference: PN80; PackageDescription: 80-Pin Plastic Quad Flat Pack, Body 12 x 12 mm, Pitch 0.5 mm; Supplier 1: Digi-Key; Supplier Part Number 1: 296-24722-2-ND; Supplier 2: Digi-Key; Supplier Part Number 2: 296-24722-1-ND; Supplier 3: Digi-Key; Supplier Part Number 3: 296-24722-6-ND; Supplier 4: Mouser; Supplier Part Number 4: 595-MSP430F4794IPZR; Comparators: Yes; Eco-Plan: Green (RoHS & no Sb/Br); Real-Time Clock: Yes; SVS: Yes; Temp Sensor: Yes; USCI_B (I2C & SPI): 1; Watchdog: Yes; Mounting Technology: Surface Mount; Code_JEDEC: MS-018; ComponentLink1Description: Manufacturer URL; ComponentLink1URL: http://www.ti.com/; ComponentLink2Description: Datasheet; ComponentLink2URL: http://www.ti.com/general/docs/lit/getliterature.tsp?genericPartNumber=MSP430F479&fileType=pdf; ComponentLink3Description: Package Specification; ComponentLink3URL: http://www.ti.com/lit/ml/mtqf010a/mtqf010a.pdf
footprint TI-PN80_N (QFP, 80-Leads, Body 12x12mm, Pitch 0.5mm, IPC Medium Density)
pins: 1 DVCC1 (power) "Digital supply voltage, positive terminal. Supplies all digital parts", 2 P2.2/TB1 (io), 3 P2.1/TB0/S0 (io), 4 P2.0/TA2/S1 (io), 5 P2.6/CAOUT/S2 (io), 6 P2.7/S3 (io), 7 GND (power) "Ground. It is used to shield the oscillator", 8 XIN "Input port for crystal oscillator XT1. Standard or watch crystals can be connected", 9 XOUT "Output port for crystal oscillator XT1. Standard or watch crystals can be connected.", 10 GND (power) "Ground. It is used to shield the oscillator", 11 P4.7/S4 (io), 12 P4.6/S5 (io), 13 P4.5/S6 (io), 14 P4.4/S7 (io), 15 P4.3/S8 (io), 16 P4.2/S9 (io), 17 P4.1/S10 (io), 18 P4.0/S11 (io), 19 S12 (out) "LCD segment output 12", 20 S13 (out) "LCD segment output 13", 21 S14 (out) "LCD segment output 14", 22 S15 (out) "LCD segment output 15", 23 S16 (out) "LCD segment output 16", 24 S17 (out) "LCD segment output 17", 25 S18 (out) "LCD segment output 18", 26 S19 (out) "LCD segment output 19", 27 P5.0/S20 (io), 28 P5.1/S21 (io), 29 S22 (out) "LCD segment output 22", 30 S23 (out) "LCD segment output 23", 31 S24 (out) "LCD segment output 23", 32 S25 (out) "LCD segment output 25", 33 COM0 (out) "Common output, COM0--3 are used for LCD backplanes", 34 P5.2/COM1 (io), 35 P5.3/COM2 (io), 36 P5.4/COM3 (io), 37 LCDCAP/R33, 38 P5.5/R23 (io), 39 P5.6/LCDREF/R13 (io), 40 P5.7/R03 (io), 41 P3.0/UCB0STE/UCA0CLK (io), 42 P3.1/UCB0SIMO/UCB0SDA/S26 (io), 43 P3.2/UCB0SOMI/UCB0SCL/S27 (io), 44 P3.3/UCB0CLK/UCA0STE (io), 45 P3.4/S28 (io), 46 P3.5/S29 (io), 47 P3.6/S30 (io), 48 P3.7/S31 (io), 49 P1.7/CA1/A2+ (io), 50 P1.6/CA0/A2-/DAC0 (io), 51 P1.5/TACLK/ACLK/A3+ (io), 52 AVCC (power) "Analog supply voltage, positive terminal", 53 AVSS (power) "Analog supply voltage, negative terminal", 54 P1.4/TBCLK/SMCLK/A3- (io), 55 P1.3/TBOUTH/SVSOUT/A4+ (io), 56 P1.2/TA1/A4- (io), 57 P1.1/TA0/MCLK (io), 58 P1.0/TA0 (io), 59 P6.7/SVSIN (io), 60 VREF "Input for an external reference voltage/internal reference voltage output", 61 P6.6 (io) "General-purpose digital I/O pin", 62 P6.5 (io) "General-purpose digital I/O pin", 63 P6.4/A1- (io), 64 P6.3/A1+ (io), 65 P6.2 (io) "General-purpose digital I/O pin", 66 P6.1/A0- (io), 67 P6.0/A0+ (io), 68 XT2OUT "Output terminal of crystal oscillator XT2", 69 XT2IN "Input port for crystal oscillator XT2", 70 TDO/TDI (io), 71 TDI/TCLK (in), 72 TMS (in) "Test mode select. TMS is used as an input port for device programming and test.", 73 TCK (in) "Test clock (JTAG). TCK is the clock input port for device programming test and bootstrap loader start.", 74 ~{RST}/NMI (in), 75 P2.5/UCA0RXD/UCA0SOMI (io), 76 P2.4/UCA0TXD/UCA0SIMO (io), 77 P2.3/TB2 (io), 78 DVSS2 (power) "Digital supply voltage, negative terminal. Supplies all digital parts.", 79 DVSS1 (power) "Digital supply voltage, negative terminal. Supplies all digital parts.", 80 DVCC2 (power) "Digital supply voltage, positive terminal. Supplies all digital parts."

## MSP430F479IPNR
designator U?
8 MHz Mixed Signal Microcontroller with 60 KB Flash, 2048 B SRAM and 48 GPIOs, -40 to 85 degC, 80-pin QFP (PN), Green (RoHS & no Sb/Br); Manufacturer: Texas Instruments; PartNumber: MSP430F479IPNR; ADC: 16-bit Sigma Delta; Brown Out Reset: Yes; Flash(KB): 60; Frequency(MHz): 8; GPIO: 48; LCD Segments: 128; SRAM(B): 2048; SubFamily: 4 Series with LCD; Timers - 16-bit: 2; USCI_A (UART/LIN/IrDA/SPI): 1; DatasheetVersion: SLAS629A; PackageReference: PN80; PackageDescription: 80-Pin Plastic Quad Flat Pack, Body 12 x 12 mm, Pitch 0.5 mm; Supplier 1: Digi-Key; Supplier Part Number 1: MSP430F479IPN-ND; Supplier 2: Newark; Supplier Part Number 2: 24R9865; Supplier 3: Mouser; Supplier Part Number 3: 595-MSP430F479IPN; Comparators: Yes; Eco-Plan: Green (RoHS & no Sb/Br); Real-Time Clock: Yes; SVS: Yes; Temp Sensor: Yes; USCI_B (I2C & SPI): 1; Watchdog: Yes; Mounting Technology: Surface Mount; Code_JEDEC: MS-018; ComponentLink1Description: Manufacturer URL; ComponentLink1URL: http://www.ti.com/; ComponentLink2Description: Datasheet; ComponentLink2URL: http://www.ti.com/general/docs/lit/getliterature.tsp?genericPartNumber=MSP430F479&fileType=pdf; ComponentLink3Description: Package Specification; ComponentLink3URL: http://www.ti.com/lit/ml/mtqf010a/mtqf010a.pdf
footprint TI-PN80_N (QFP, 80-Leads, Body 12x12mm, Pitch 0.5mm, IPC Medium Density)
pins: 1 DVCC1 (power) "Digital supply voltage, positive terminal. Supplies all digital parts", 2 P2.2/TB1 (io), 3 P2.1/TB0/S0 (io), 4 P2.0/TA2/S1 (io), 5 P2.6/CAOUT/S2 (io), 6 P2.7/S3 (io), 7 GND (power) "Ground. It is used to shield the oscillator", 8 XIN "Input port for crystal oscillator XT1. Standard or watch crystals can be connected", 9 XOUT "Output port for crystal oscillator XT1. Standard or watch crystals can be connected.", 10 GND (power) "Ground. It is used to shield the oscillator", 11 P4.7/S4 (io), 12 P4.6/S5 (io), 13 P4.5/S6 (io), 14 P4.4/S7 (io), 15 P4.3/S8 (io), 16 P4.2/S9 (io), 17 P4.1/S10 (io), 18 P4.0/S11 (io), 19 S12 (out) "LCD segment output 12", 20 S13 (out) "LCD segment output 13", 21 S14 (out) "LCD segment output 14", 22 S15 (out) "LCD segment output 15", 23 S16 (out) "LCD segment output 16", 24 S17 (out) "LCD segment output 17", 25 S18 (out) "LCD segment output 18", 26 S19 (out) "LCD segment output 19", 27 P5.0/S20 (io), 28 P5.1/S21 (io), 29 S22 (out) "LCD segment output 22", 30 S23 (out) "LCD segment output 23", 31 S24 (out) "LCD segment output 23", 32 S25 (out) "LCD segment output 25", 33 COM0 (out) "Common output, COM0--3 are used for LCD backplanes", 34 P5.2/COM1 (io), 35 P5.3/COM2 (io), 36 P5.4/COM3 (io), 37 LCDCAP/R33, 38 P5.5/R23 (io), 39 P5.6/LCDREF/R13 (io), 40 P5.7/R03 (io), 41 P3.0/UCB0STE/UCA0CLK (io), 42 P3.1/UCB0SIMO/UCB0SDA/S26 (io), 43 P3.2/UCB0SOMI/UCB0SCL/S27 (io), 44 P3.3/UCB0CLK/UCA0STE (io), 45 P3.4/S28 (io), 46 P3.5/S29 (io), 47 P3.6/S30 (io), 48 P3.7/S31 (io), 49 P1.7/CA1/A2+ (io), 50 P1.6/CA0/A2-/DAC0 (io), 51 P1.5/TACLK/ACLK/A3+ (io), 52 AVCC (power) "Analog supply voltage, positive terminal", 53 AVSS (power) "Analog supply voltage, negative terminal", 54 P1.4/TBCLK/SMCLK/A3- (io), 55 P1.3/TBOUTH/SVSOUT/A4+ (io), 56 P1.2/TA1/A4- (io), 57 P1.1/TA0/MCLK (io), 58 P1.0/TA0 (io), 59 P6.7/SVSIN (io), 60 VREF "Input for an external reference voltage/internal reference voltage output", 61 P6.6 (io) "General-purpose digital I/O pin", 62 P6.5 (io) "General-purpose digital I/O pin", 63 P6.4/A1- (io), 64 P6.3/A1+ (io), 65 P6.2 (io) "General-purpose digital I/O pin", 66 P6.1/A0- (io), 67 P6.0/A0+ (io), 68 XT2OUT "Output terminal of crystal oscillator XT2", 69 XT2IN "Input port for crystal oscillator XT2", 70 TDO/TDI (io), 71 TDI/TCLK (in), 72 TMS (in) "Test mode select. TMS is used as an input port for device programming and test.", 73 TCK (in) "Test clock (JTAG). TCK is the clock input port for device programming test and bootstrap loader start.", 74 ~{RST}/NMI (in), 75 P2.5/UCA0RXD/UCA0SOMI (io), 76 P2.4/UCA0TXD/UCA0SIMO (io), 77 P2.3/TB2 (io), 78 DVSS2 (power) "Digital supply voltage, negative terminal. Supplies all digital parts.", 79 DVSS1 (power) "Digital supply voltage, negative terminal. Supplies all digital parts.", 80 DVCC2 (power) "Digital supply voltage, positive terminal. Supplies all digital parts."

## MSP430F1101AIDGV
designator U?
8 MHz Mixed Signal Microcontroller with 1 KB Flash, 128 B SRAM and 14 GPIOs, -40 to 85 degC, 20-SOP (DGV), Green (RoHS & no Sb/Br); Manufacturer: Texas Instruments; PartNumber: MSP430F1101AIDGV; ADC: Slope; Comparators: Yes; Flash(KB): 1; Frequency(MHz): 8; GPIO: 14; SRAM(B): 128; SubFamily: 1 Series; DatasheetVersion: SLAS241I; PackageVersion: 4073251/E; PackageReference: DGV20; PackageDescription: 20-Pin Plastic Small Outline, Body 4.4 x 5 mm, Pitch 0.4 mm; Supplier 1: Digi-Key; Supplier Part Number 1: 296-15781-5-ND; Supplier 2: Farnell; Supplier Part Number 2: 1903417; Supplier 3: Newark; Supplier Part Number 3: 82H5128; Supplier 4: Mouser; Supplier Part Number 4: 595-430F1101AIDGV; Eco-Plan: Green (RoHS & no Sb/Br); Timers - 16-bit: 1; Watchdog: Yes; Mounting Technology: Surface Mount; Code_JEDEC: MO-194; ComponentLink1Description: Manufacturer URL; ComponentLink1URL: http://www.ti.com/; ComponentLink2Description: Datasheet; ComponentLink2URL: http://www.ti.com/general/docs/lit/getliterature.tsp?genericPartNumber=MSP430F1101A&fileType=pdf; ComponentLink3Description: Package Specification; ComponentLink3URL: http://www.ti.com/lit/ml/mpds006c/mpds006c.pdf
footprint TI-DGV20_N (SOP, 20-Leads, Body 5x4.4mm, Pitch 0.4mm, IPC Medium Density)
pins: 1 TEST (in) "Selects test mode for JTAG pins on Port1. The device protection fuse is connected to TEST.", 2 VCC (power) "Supply voltage", 3 P2.5/ROSC (io), 4 VSS (power) "Ground reference", 5 XOUT "Output terminal of crystal oscillator", 6 XIN "Input terminal of crystal oscillator", 7 ~{RST}/NMI (in), 8 P2.0/ACLK (io), 9 P2.1/INCLK (io), 10 P2.2/CAOUT/TA0 (io), 11 P2.3/CA0/TA1 (io), 12 P2.4/CA1/TA2 (io), 13 P1.0/TACLK (io), 14 P1.1/TA0 (io), 15 P1.2/TA1 (io), 16 P1.3/TA2 (io), 17 P1.4/SMCLK/TCK (io), 18 P1.5/TA0/TMS (io), 19 P1.6/TA1/TDI/TCLK (io), 20 P1.7/TA2/TDO/TDI (io)

## MSP430F1101AIDGVR
designator U?
8 MHz Mixed Signal Microcontroller with 1 KB Flash, 128 B SRAM and 14 GPIOs, -40 to 85 degC, 20-SOP (DGV), Green (RoHS & no Sb/Br); Manufacturer: Texas Instruments; PartNumber: MSP430F1101AIDGVR; ADC: Slope; Comparators: Yes; Flash(KB): 1; Frequency(MHz): 8; GPIO: 14; SRAM(B): 128; SubFamily: 1 Series; DatasheetVersion: SLAS241I; PackageVersion: 4073251/E; PackageReference: DGV20; PackageDescription: 20-Pin Plastic Small Outline, Body 4.4 x 5 mm, Pitch 0.4 mm; Supplier 1: Digi-Key; Supplier Part Number 1: MSP430F1101AIDGVR-ND; Supplier 2: Newark; Supplier Part Number 2: 82H5129; Supplier 3: Mouser; Supplier Part Number 3: 595-430F1101AIDGVR; Eco-Plan: Green (RoHS & no Sb/Br); Timers - 16-bit: 1; Watchdog: Yes; Mounting Technology: Surface Mount; Code_JEDEC: MO-194; ComponentLink1Description: Manufacturer URL; ComponentLink1URL: http://www.ti.com/; ComponentLink2Description: Datasheet; ComponentLink2URL: http://www.ti.com/general/docs/lit/getliterature.tsp?genericPartNumber=MSP430F1101A&fileType=pdf; ComponentLink3Description: Package Specification; ComponentLink3URL: http://www.ti.com/lit/ml/mpds006c/mpds006c.pdf
footprint TI-DGV20_N (SOP, 20-Leads, Body 5x4.4mm, Pitch 0.4mm, IPC Medium Density)
pins: 1 TEST (in) "Selects test mode for JTAG pins on Port1. The device protection fuse is connected to TEST.", 2 VCC (power) "Supply voltage", 3 P2.5/ROSC (io), 4 VSS (power) "Ground reference", 5 XOUT "Output terminal of crystal oscillator", 6 XIN "Input terminal of crystal oscillator", 7 ~{RST}/NMI (in), 8 P2.0/ACLK (io), 9 P2.1/INCLK (io), 10 P2.2/CAOUT/TA0 (io), 11 P2.3/CA0/TA1 (io), 12 P2.4/CA1/TA2 (io), 13 P1.0/TACLK (io), 14 P1.1/TA0 (io), 15 P1.2/TA1 (io), 16 P1.3/TA2 (io), 17 P1.4/SMCLK/TCK (io), 18 P1.5/TA0/TMS (io), 19 P1.6/TA1/TDI/TCLK (io), 20 P1.7/TA2/TDO/TDI (io)

## MSP430F1101AIDW
designator U?
8 MHz Mixed Signal Microcontroller with 1 KB Flash, 128 B SRAM and 14 GPIOs, -40 to 85 degC, 20-SOIC (DW), Green (RoHS & no Sb/Br); Manufacturer: Texas Instruments; PartNumber: MSP430F1101AIDW; ADC: Slope; Comparators: Yes; Flash(KB): 1; Frequency(MHz): 8; GPIO: 14; SRAM(B): 128; SubFamily: 1 Series; DatasheetVersion: SLAS241I; PackageVersion: 4040000-4/G; PackageReference: DW20; PackageDescription: 20-Pin Plastic Small Outline, Body 12.8 x 7.5 mm, Pitch 1.27 mm; Supplier 1: Digi-Key; Supplier Part Number 1: 296-13768-5-ND; Supplier 2: Newark; Supplier Part Number 2: 73K6077; Supplier 3: Mouser; Supplier Part Number 3: 595-430F1101AIDW; Eco-Plan: Green (RoHS & no Sb/Br); Timers - 16-bit: 1; Watchdog: Yes; Mounting Technology: Surface Mount; Code_JEDEC: MO-013; ComponentLink1Description: Manufacturer URL; ComponentLink1URL: http://www.ti.com/; ComponentLink2Description: Datasheet; ComponentLink2URL: http://www.ti.com/general/docs/lit/getliterature.tsp?genericPartNumber=MSP430F1101A&fileType=pdf; ComponentLink3Description: Package Specification; ComponentLink3URL: http://www.ti.com/lit/ml/mpds173a/mpds173a.pdf
footprint TI-DW20_N (SOIC, 20-Leads, Body 12.8x7.5mm, Pitch 1.27mm, IPC Medium Density)
pins: 1 TEST (in) "Selects test mode for JTAG pins on Port1. The device protection fuse is connected to TEST.", 2 VCC (power) "Supply voltage", 3 P2.5/ROSC (io), 4 VSS (power) "Ground reference", 5 XOUT "Output terminal of crystal oscillator", 6 XIN "Input terminal of crystal oscillator", 7 ~{RST}/NMI (in), 8 P2.0/ACLK (io), 9 P2.1/INCLK (io), 10 P2.2/CAOUT/TA0 (io), 11 P2.3/CA0/TA1 (io), 12 P2.4/CA1/TA2 (io), 13 P1.0/TACLK (io), 14 P1.1/TA0 (io), 15 P1.2/TA1 (io), 16 P1.3/TA2 (io), 17 P1.4/SMCLK/TCK (io), 18 P1.5/TA0/TMS (io), 19 P1.6/TA1/TDI/TCLK (io), 20 P1.7/TA2/TDO/TDI (io)

## MSP430F1101AIDWR
designator U?
8 MHz Mixed Signal Microcontroller with 1 KB Flash, 128 B SRAM and 14 GPIOs, -40 to 85 degC, 20-SOIC (DW), Green (RoHS & no Sb/Br); Manufacturer: Texas Instruments; PartNumber: MSP430F1101AIDWR; ADC: Slope; Comparators: Yes; Flash(KB): 1; Frequency(MHz): 8; GPIO: 14; SRAM(B): 128; SubFamily: 1 Series; DatasheetVersion: SLAS241I; PackageVersion: 4040000-4/G; PackageReference: DW20; PackageDescription: 20-Pin Plastic Small Outline, Body 12.8 x 7.5 mm, Pitch 1.27 mm; Supplier 1: Digi-Key; Supplier Part Number 1: 296-26171-2-ND; Supplier 2: Digi-Key; Supplier Part Number 2: 296-26171-1-ND; Supplier 3: Digi-Key; Supplier Part Number 3: 296-26171-6-ND; Supplier 4: Newark; Supplier Part Number 4: 75C4002; Supplier 5: Mouser; Supplier Part Number 5: 595-430F1101AIDWR; Eco-Plan: Green (RoHS & no Sb/Br); Timers - 16-bit: 1; Watchdog: Yes; Mounting Technology: Surface Mount; Code_JEDEC: MO-013; ComponentLink1Description: Manufacturer URL; ComponentLink1URL: http://www.ti.com/; ComponentLink2Description: Datasheet; ComponentLink2URL: http://www.ti.com/general/docs/lit/getliterature.tsp?genericPartNumber=MSP430F1101A&fileType=pdf; ComponentLink3Description: Package Specification; ComponentLink3URL: http://www.ti.com/lit/ml/mpds173a/mpds173a.pdf
footprint TI-DW20_N (SOIC, 20-Leads, Body 12.8x7.5mm, Pitch 1.27mm, IPC Medium Density)
pins: 1 TEST (in) "Selects test mode for JTAG pins on Port1. The device protection fuse is connected to TEST.", 2 VCC (power) "Supply voltage", 3 P2.5/ROSC (io), 4 VSS (power) "Ground reference", 5 XOUT "Output terminal of crystal oscillator", 6 XIN "Input terminal of crystal oscillator", 7 ~{RST}/NMI (in), 8 P2.0/ACLK (io), 9 P2.1/INCLK (io), 10 P2.2/CAOUT/TA0 (io), 11 P2.3/CA0/TA1 (io), 12 P2.4/CA1/TA2 (io), 13 P1.0/TACLK (io), 14 P1.1/TA0 (io), 15 P1.2/TA1 (io), 16 P1.3/TA2 (io), 17 P1.4/SMCLK/TCK (io), 18 P1.5/TA0/TMS (io), 19 P1.6/TA1/TDI/TCLK (io), 20 P1.7/TA2/TDO/TDI (io)

## MSP430F1101AIPW
designator U?
8 MHz Mixed Signal Microcontroller with 1 KB Flash, 128 B SRAM and 14 GPIOs, -40 to 85 degC, 20-SOP (PW), Green (RoHS & no Sb/Br); Manufacturer: Texas Instruments; PartNumber: MSP430F1101AIPW; ADC: Slope; Comparators: Yes; Flash(KB): 1; Frequency(MHz): 8; GPIO: 14; SRAM(B): 128; SubFamily: 1 Series; DatasheetVersion: SLAS241I; PackageVersion: 4040064-5/G; PackageReference: PW20; PackageDescription: 20-Pin Plastic Small Outline, Body 6.5 x 4.4 mm, 0.65 mm Pitch; Supplier 1: Digi-Key; Supplier Part Number 1: 296-13720-5-ND; Supplier 2: Farnell; Supplier Part Number 2: 1471261; Supplier 3: Newark; Supplier Part Number 3: 75C4003; Supplier 4: Mouser; Supplier Part Number 4: 595-430F1101AIPW; Eco-Plan: Green (RoHS & no Sb/Br); Timers - 16-bit: 1; Watchdog: Yes; Mounting Technology: Surface Mount; Code_JEDEC: MO-153; ComponentLink1Description: Manufacturer URL; ComponentLink1URL: http://www.ti.com/; ComponentLink2Description: Datasheet; ComponentLink2URL: http://www.ti.com/general/docs/lit/getliterature.tsp?genericPartNumber=MSP430F1101A&fileType=pdf; ComponentLink3Description: Package Specification; ComponentLink3URL: http://www.ti.com.cn/cn/lit/ml/mpds362/mpds362.pdf
footprint TI-PW20_N (SOP, 20-Leads, Body 6.5x4.4mm, Pitch 0.65mm, IPC Medium Density)
pins: 1 TEST (in) "Selects test mode for JTAG pins on Port1. The device protection fuse is connected to TEST.", 2 VCC (power) "Supply voltage", 3 P2.5/ROSC (io), 4 VSS (power) "Ground reference", 5 XOUT "Output terminal of crystal oscillator", 6 XIN "Input terminal of crystal oscillator", 7 ~{RST}/NMI (in), 8 P2.0/ACLK (io), 9 P2.1/INCLK (io), 10 P2.2/CAOUT/TA0 (io), 11 P2.3/CA0/TA1 (io), 12 P2.4/CA1/TA2 (io), 13 P1.0/TACLK (io), 14 P1.1/TA0 (io), 15 P1.2/TA1 (io), 16 P1.3/TA2 (io), 17 P1.4/SMCLK/TCK (io), 18 P1.5/TA0/TMS (io), 19 P1.6/TA1/TDI/TCLK (io), 20 P1.7/TA2/TDO/TDI (io)

## MSP430F1101AIPWR
designator U?
8 MHz Mixed Signal Microcontroller with 1 KB Flash, 128 B SRAM and 14 GPIOs, -40 to 85 degC, 20-SOP (PW), Green (RoHS & no Sb/Br); Manufacturer: Texas Instruments; PartNumber: MSP430F1101AIPWR; ADC: Slope; Comparators: Yes; Flash(KB): 1; Frequency(MHz): 8; GPIO: 14; SRAM(B): 128; SubFamily: 1 Series; DatasheetVersion: SLAS241I; PackageVersion: 4040064-5/G; PackageReference: PW20; PackageDescription: 20-Pin Plastic Small Outline, Body 6.5 x 4.4 mm, 0.65 mm Pitch; Supplier 1: Digi-Key; Supplier Part Number 1: 296-26172-2-ND; Supplier 2: Digi-Key; Supplier Part Number 2: 296-26172-1-ND; Supplier 3: Digi-Key; Supplier Part Number 3: 296-26172-6-ND; Supplier 4: Newark; Supplier Part Number 4: 75C4004; Supplier 5: Mouser; Supplier Part Number 5: 595-430F1101AIPWR; Eco-Plan: Green (RoHS & no Sb/Br); Timers - 16-bit: 1; Watchdog: Yes; Mounting Technology: Surface Mount; Code_JEDEC: MO-153; ComponentLink1Description: Manufacturer URL; ComponentLink1URL: http://www.ti.com/; ComponentLink2Description: Datasheet; ComponentLink2URL: http://www.ti.com/general/docs/lit/getliterature.tsp?genericPartNumber=MSP430F1101A&fileType=pdf; ComponentLink3Description: Package Specification; ComponentLink3URL: http://www.ti.com.cn/cn/lit/ml/mpds362/mpds362.pdf
footprint TI-PW20_N (SOP, 20-Leads, Body 6.5x4.4mm, Pitch 0.65mm, IPC Medium Density)
pins: 1 TEST (in) "Selects test mode for JTAG pins on Port1. The device protection fuse is connected to TEST.", 2 VCC (power) "Supply voltage", 3 P2.5/ROSC (io), 4 VSS (power) "Ground reference", 5 XOUT "Output terminal of crystal oscillator", 6 XIN "Input terminal of crystal oscillator", 7 ~{RST}/NMI (in), 8 P2.0/ACLK (io), 9 P2.1/INCLK (io), 10 P2.2/CAOUT/TA0 (io), 11 P2.3/CA0/TA1 (io), 12 P2.4/CA1/TA2 (io), 13 P1.0/TACLK (io), 14 P1.1/TA0 (io), 15 P1.2/TA1 (io), 16 P1.3/TA2 (io), 17 P1.4/SMCLK/TCK (io), 18 P1.5/TA0/TMS (io), 19 P1.6/TA1/TDI/TCLK (io), 20 P1.7/TA2/TDO/TDI (io)

## MSP430F1101AIRGER
designator U?
8 MHz Mixed Signal Microcontroller with 1 KB Flash, 128 B SRAM and 14 GPIOs, -40 to 85 degC, 24-QFN (RGE), Green (RoHS & no Sb/Br); Manufacturer: Texas Instruments; PartNumber: MSP430F1101AIRGER; ADC: Slope; Comparators: Yes; Flash(KB): 1; Frequency(MHz): 8; GPIO: 14; SRAM(B): 128; SubFamily: 1 Series; DatasheetVersion: SLAS241I; PackageVersion: 4204104/G; PackageReference: RGE24-2450X2450TP; PackageDescription: 24-Pin Plastic Flat Pack, Body 4 x 4 mm, 0.5 mm Pitch; Supplier 1: Digi-Key; Supplier Part Number 1: MSP430F1101AIRGER-ND; Supplier 2: Newark; Supplier Part Number 2: 90H2217; Supplier 3: Mouser; Supplier Part Number 3: 595-430F1101AIRGER; Eco-Plan: Green (RoHS & no Sb/Br); Timers - 16-bit: 1; Watchdog: Yes; Mounting Technology: Surface Mount; Code_JEDEC: MO-220; ComponentLink1Description: Manufacturer URL; ComponentLink1URL: http://www.ti.com/; ComponentLink2Description: Datasheet; ComponentLink2URL: http://www.ti.com/general/docs/lit/getliterature.tsp?genericPartNumber=MSP430F1101A&fileType=pdf; ComponentLink3Description: Package Specification; ComponentLink3URL: http://www.ti.com/litv/pdf/mpqf124f
footprint TI-RGE24-2450X2450TP_N (QFN, 24-Leads, Body 4x4mm, Pitch 0.5mm, Thermal Pad 2.45x2.45mm, IPC Medium Density)
pins: 1 NC "No Connection", 2 VSS (power) "Ground reference", 3 XOUT "Output terminal of crystal oscillator", 4 XIN "Input terminal of crystal oscillator", 5 ~{RST}/NMI (in), 6 P2.0/ACLK (io), 7 P2.1/INCLK (io), 8 P2.2/CAOUT/TA0 (io), 9 NC "No Connection", 10 P2.3/CA0/TA1 (io), 11 P2.4/CA1/TA2 (io), 12 NC "No Connection", 13 P1.0/TACLK (io), 14 P1.1/TA0 (io), 15 P1.2/TA1 (io), 16 P1.3/TA2 (io), 17 P1.4/SMCLK/TCK (io), 18 P1.5/TA0/TMS (io), 19 NC "No Connection", 20 P1.6/TA1/TDI/TCLK (io), 21 P1.7/TA2/TDO/TDI (io), 22 TEST (in) "Selects test mode for JTAG pins on Port1. The device protection fuse is connected to TEST.", 23 VCC (power) "Supply voltage", 24 P2.5/ROSC (io), 25 QFN PAD (power) "QFN package pad connection to VSS recommended."

## MSP430F1101AIRGET
designator U?
8 MHz Mixed Signal Microcontroller with 1 KB Flash, 128 B SRAM and 14 GPIOs, -40 to 85 degC, 24-QFN (RGE), Green (RoHS & no Sb/Br); Manufacturer: Texas Instruments; PartNumber: MSP430F1101AIRGET; ADC: Slope; Comparators: Yes; Flash(KB): 1; Frequency(MHz): 8; GPIO: 14; SRAM(B): 128; SubFamily: 1 Series; DatasheetVersion: SLAS241I; PackageVersion: 4204104/G; PackageReference: RGE24-2450X2450TP; PackageDescription: 24-Pin Plastic Flat Pack, Body 4 x 4 mm, 0.5 mm Pitch; Supplier 1: Digi-Key; Supplier Part Number 1: 296-16765-2-ND; Supplier 2: Digi-Key; Supplier Part Number 2: 296-16765-1-ND; Supplier 3: Digi-Key; Supplier Part Number 3: 296-16765-6-ND; Supplier 4: Farnell; Supplier Part Number 4: 1903418; Supplier 5: Newark; Supplier Part Number 5: 95H1669; Supplier 6: Mouser; Supplier Part Number 6: 595-430F1101AIRGET; Eco-Plan: Green (RoHS & no Sb/Br); Timers - 16-bit: 1; Watchdog: Yes; Mounting Technology: Surface Mount; Code_JEDEC: MO-220; ComponentLink1Description: Manufacturer URL; ComponentLink1URL: http://www.ti.com/; ComponentLink2Description: Datasheet; ComponentLink2URL: http://www.ti.com/general/docs/lit/getliterature.tsp?genericPartNumber=MSP430F1101A&fileType=pdf; ComponentLink3Description: Package Specification; ComponentLink3URL: http://www.ti.com/litv/pdf/mpqf124f
footprint TI-RGE24-2450X2450TP_N (QFN, 24-Leads, Body 4x4mm, Pitch 0.5mm, Thermal Pad 2.45x2.45mm, IPC Medium Density)
pins: 1 NC "No Connection", 2 VSS (power) "Ground reference", 3 XOUT "Output terminal of crystal oscillator", 4 XIN "Input terminal of crystal oscillator", 5 ~{RST}/NMI (in), 6 P2.0/ACLK (io), 7 P2.1/INCLK (io), 8 P2.2/CAOUT/TA0 (io), 9 NC "No Connection", 10 P2.3/CA0/TA1 (io), 11 P2.4/CA1/TA2 (io), 12 NC "No Connection", 13 P1.0/TACLK (io), 14 P1.1/TA0 (io), 15 P1.2/TA1 (io), 16 P1.3/TA2 (io), 17 P1.4/SMCLK/TCK (io), 18 P1.5/TA0/TMS (io), 19 NC "No Connection", 20 P1.6/TA1/TDI/TCLK (io), 21 P1.7/TA2/TDO/TDI (io), 22 TEST (in) "Selects test mode for JTAG pins on Port1. The device protection fuse is connected to TEST.", 23 VCC (power) "Supply voltage", 24 P2.5/ROSC (io), 25 QFN PAD (power) "QFN package pad connection to VSS recommended."

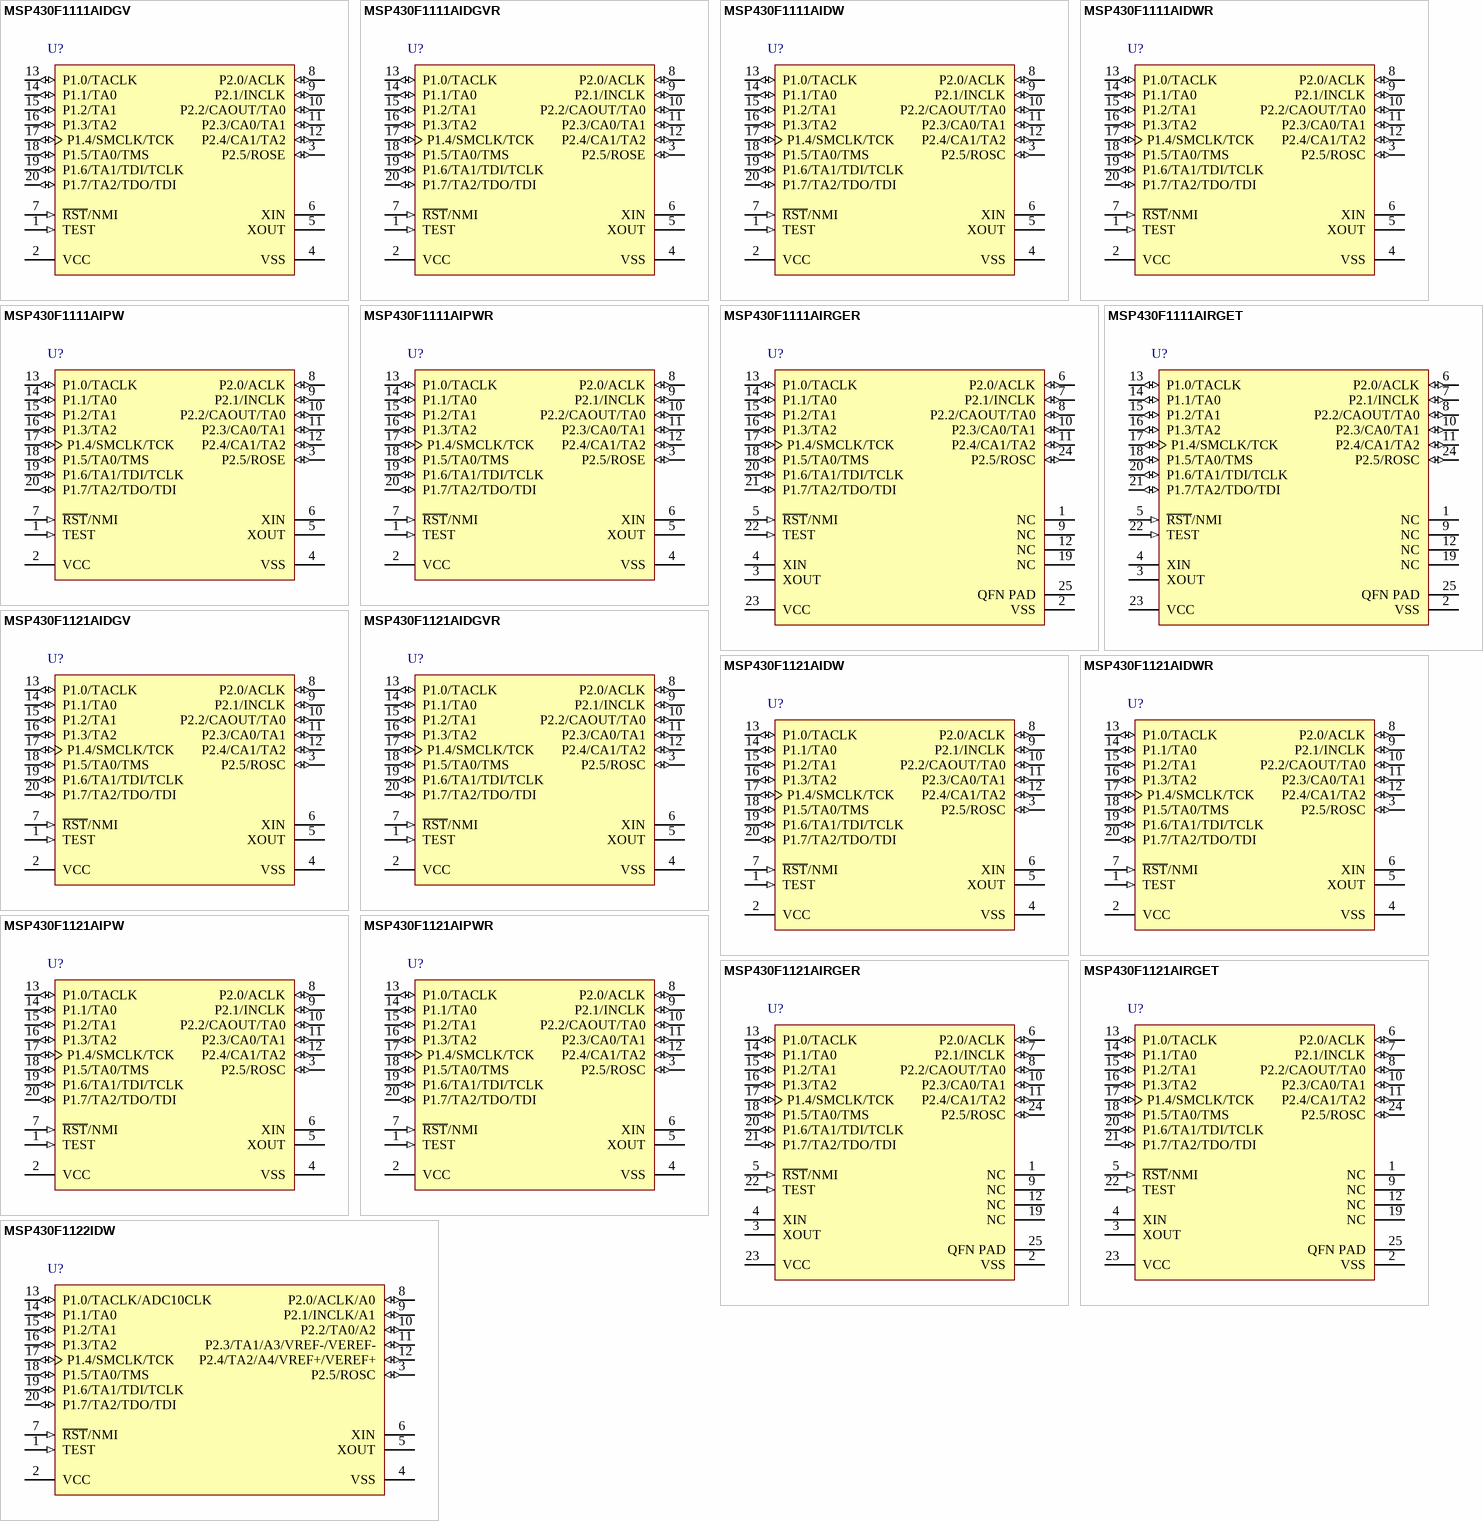
[diagram p40: symbols MSP430F1111AIDGV to MSP430F1122IDW]

## MSP430F1111AIDGV
designator U?
8 MHz Mixed Signal Microcontroller with 2 KB Flash, 128 B SRAM and 14 GPIOs, -40 to 85 degC, 20-pin SOP (DGV), Green (RoHS & no Sb/Br); Manufacturer: Texas Instruments; PartNumber: MSP430F1111AIDGV; ADC: Slope; Comparators: Yes; Flash(KB): 2; Frequency(MHz): 8; GPIO: 14; SRAM(B): 128; SubFamily: 1 Series; Timers - 16-bit: 1; DatasheetVersion: SLAS241I; PackageVersion: 4073251/E; PackageReference: DGV20; PackageDescription: 20-Pin Plastic Small Outline, Body 4.4 x 5 mm, Pitch 0.4 mm; Supplier 1: Digi-Key; Supplier Part Number 1: 296-15782-5-ND; Supplier 2: Newark; Supplier Part Number 2: 82H5130; Supplier 3: Mouser; Supplier Part Number 3: 595-430F1111AIDGV; Eco-Plan: Green (RoHS & no Sb/Br); Watchdog: Yes; Mounting Technology: Surface Mount; Code_JEDEC: MO-194; ComponentLink1Description: Manufacturer URL; ComponentLink1URL: http://www.ti.com/; ComponentLink2Description: Datasheet; ComponentLink2URL: http://www.ti.com/general/docs/lit/getliterature.tsp?genericPartNumber=MSP430F1111A&fileType=pdf; ComponentLink3Description: Package Specification; ComponentLink3URL: http://www.ti.com/lit/ml/mpds006c/mpds006c.pdf
footprint TI-DGV20_N (SOP, 20-Leads, Body 5x4.4mm, Pitch 0.4mm, IPC Medium Density)
pins: 1 TEST (in) "Selects test mode for JTAG pins on Port1. The device protection fuse is connected to TEST.", 2 VCC (power) "Supply voltage", 3 P2.5/ROSE (io), 4 VSS (power) "Ground reference", 5 XOUT "Output terminal of crystal oscillator", 6 XIN "Input terminal of crystal oscillator", 7 ~{RST}/NMI (in), 8 P2.0/ACLK (io), 9 P2.1/INCLK (io), 10 P2.2/CAOUT/TA0 (io), 11 P2.3/CA0/TA1 (io), 12 P2.4/CA1/TA2 (io), 13 P1.0/TACLK (io), 14 P1.1/TA0 (io), 15 P1.2/TA1 (io), 16 P1.3/TA2 (io), 17 P1.4/SMCLK/TCK (io), 18 P1.5/TA0/TMS (io), 19 P1.6/TA1/TDI/TCLK (io), 20 P1.7/TA2/TDO/TDI (io)